# EAGLE library part ADM560 (library work)
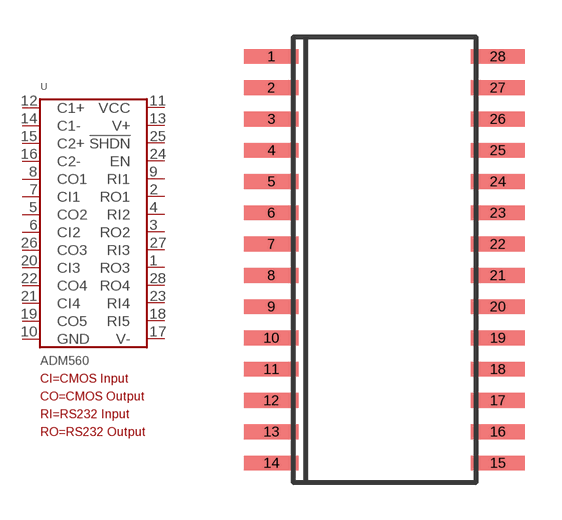
[diagram p26: symbol with the pads of SOIC-28; footprint SOIC-28]

Designator prefix U

## ADM560  [SOIC-28]
1  RO3
2  RO1
3  RO2
4  RI2
5  CO2
6  CI2
7  CI1
8  CO1
9  RI1
10  GND
11  VCC
12  C1+
13  V+
14  C1-
15  C2+
16  C2-
17  V-
18  RI5
19  CO5
20  CI3
21  CI4
22  CO4
23  RI4
24  EN
25  !SHDN
26  CO3
27  RI3
28  RO4

## Footprint SOIC-28 (pad centres in mm)
smd 2.2 x 0.6: 1 -4.6,8.255; 2 -4.6,6.985; 3 -4.6,5.715; 4 -4.6,4.445; 5 -4.6,3.175; 6 -4.6,1.905; 7 -4.6,0.635; 8 -4.6,-0.635; 9 -4.6,-1.905; 10 -4.6,-3.175; 11 -4.6,-4.445; 12 -4.6,-5.715; 13 -4.6,-6.985; 14 -4.6,-8.255; 15 4.6,-8.255; 16 4.6,-6.985; 17 4.6,-5.715; 18 4.6,-4.445; 19 4.6,-3.175; 20 4.6,-1.905; 21 4.6,-0.635; 22 4.6,0.635; 23 4.6,1.905; 24 4.6,3.175; 25 4.6,4.445; 26 4.6,5.715; 27 4.6,6.985; 28 4.6,8.255